# Altium footprint library Components - 12.02.20 - 19.52.PcbLib: 2 footprints
Each footprint in its own frame and in the unit in brackets; x right, y up, seen from the top. Pads: shape width x height; smd on the part's side, far side on the other; paste and mask are expansions set on the pad; w line width, h text height; cw(c..) or ccw(c..) is an arc to the next point about the centre after c.
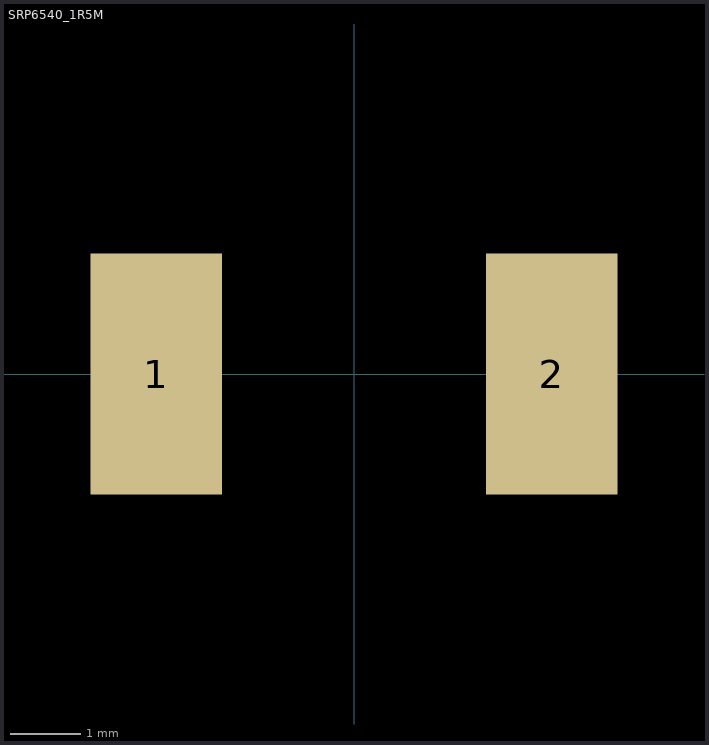
[diagram p0: the footprints below, top view; thin cyan lines are the x and y axes]

## PCBComponent_1 [mil]

## SRP6540_1R5M [mil] "SRP6540  Series - Shielded Power Inductors"
height 157
pads (2):
  rect 73x134 smd: 1(-110,0) 2(110,0)
3D body "SRP6540.stp": height 157.5, standoff 0.5, extent -141.51,-128 141.49,128